# EAGLE library part PMP3906AYSH (library SamacSys_Parts)
PMP3906AYS - 40 V, 200 mA PNP/PNP matched double transistor@en-us Source: Datasheet <https://assets.nexperia.com/documents/data-sheet/PMP3906AYS.pdf>
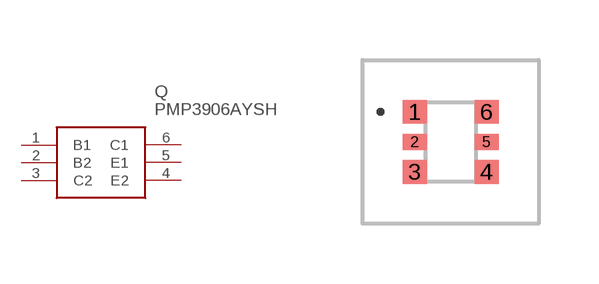
[diagram p57: symbol with the pads of PMP3906AYSH; footprint PMP3906AYSH]

Designator prefix Q

## PMP3906AYSH (DESCRIPTION: PMP3906AYS - 40 V, 200 mA PNP/PNP matched double transistor@en-us; HEIGHT: 1.1mm; MANUFACTURER_NAME: Nexperia; MANUFACTURER_PART_NUMBER: PMP3906AYSH; MOUSER_PART_NUMBER: 771-PMP3906AYSH; MOUSER_PRICE-STOCK: https://www.mouser.co.uk/ProductDetail/Nexperia/PMP3906AYSH?qs=vvQtp7zwQdPhl6IciBiaKA%3D%3D)  [PMP3906AYSH]
1  B1
2  B2
3  C2
4  E2
5  E1
6  C1

## Footprint PMP3906AYSH (pad centres in mm)
SOT363_ 2022
smd 0.6 x 0.6: 1 -0.9,0.75; 3 -0.9,-0.75; 4 0.9,-0.75; 6 0.9,0.75
smd 0.6 x 0.4: 2 -0.9,0; 5 0.9,0